# Altium footprint library PACKAGES_DFN.PcbLib: 1 footprints
Each footprint in its own frame and in the unit in brackets; x right, y up, seen from the top. Pads: shape width x height; smd on the part's side, far side on the other; paste and mask are expansions set on the pad; w line width, h text height; cw(c..) or ccw(c..) is an arc to the next point about the centre after c.
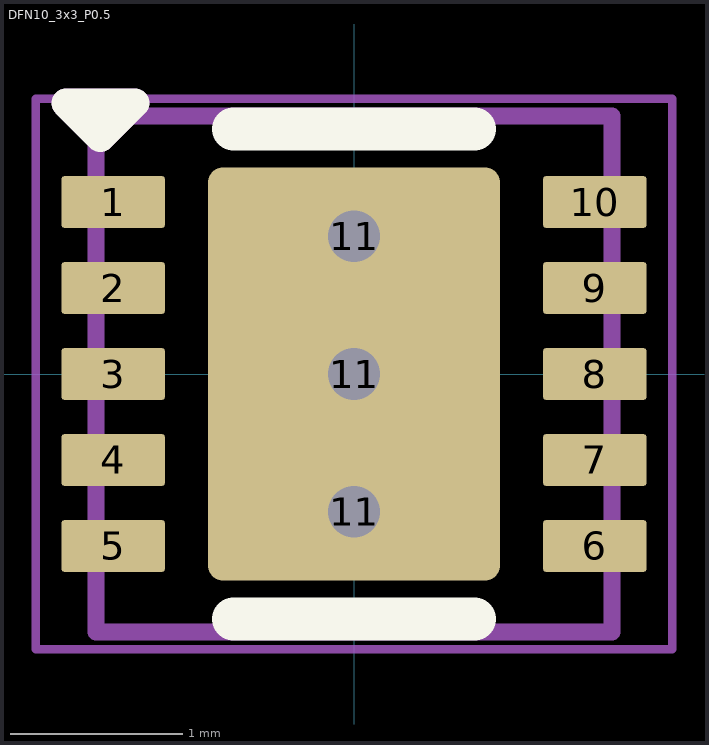
[diagram p0: the footprint, top view; thin cyan lines are the x and y axes]

## DFN10_3x3_P0.5 [mm]
pads (14):
  rrect10% 0.6x0.3 smd: 1(-1.4,1) 2(-1.4,0.5) 3(-1.4,0) 4(-1.4,-0.5) 5(-1.4,-1) 6(1.4,-1) 7(1.4,-0.5) 8(1.4,0) 9(1.4,0.5) 10(1.4,1)
  round 0.6 hole 0.3: 11(0,-0.8) 11(0,0) 11(0,0.8)
  rrect10% 1.7x2.4 smd: 11(0,0)
Top Overlay:
  lines w0.17: -1.475,1.375 -1.275,1.575 -1.675,1.575 -1.625,1.525 -1.525,1.425 -1.475,1.375 ; -1.475,1.375 -1.475,1.375
  lines w0.25: -0.7,-1.425 0.7,-1.425 ; -0.7,1.425 0.7,1.425
Mechanical 13:
  lines w0.1: -1.5,-1.5 1.5,-1.5 1.5,1.5 -1.5,1.5 -1.5,-1.5
  lines w0.17: -1.475,1.375 -1.525,1.425 -1.625,1.525 -1.675,1.575 -1.275,1.575 -1.475,1.375 ; -1.475,1.375 -1.475,1.375
Mechanical 15:
  lines w0.05: -0.225,0 0.225,0 ; 0,-0.2 0,0.2 ; -1.85,-1.6 -1.85,1.6 1.85,1.6 1.85,-1.6 -1.85,-1.6
3D body "DFN10(3x3).STEP": height 0.76, standoff 0, extent -1.501,-1.5 1.501,1.5